# Altium schematic symbol library untitled.SchLib: 6 symbols
Pins are listed as number, name and electrical type; pins without a type are passive.

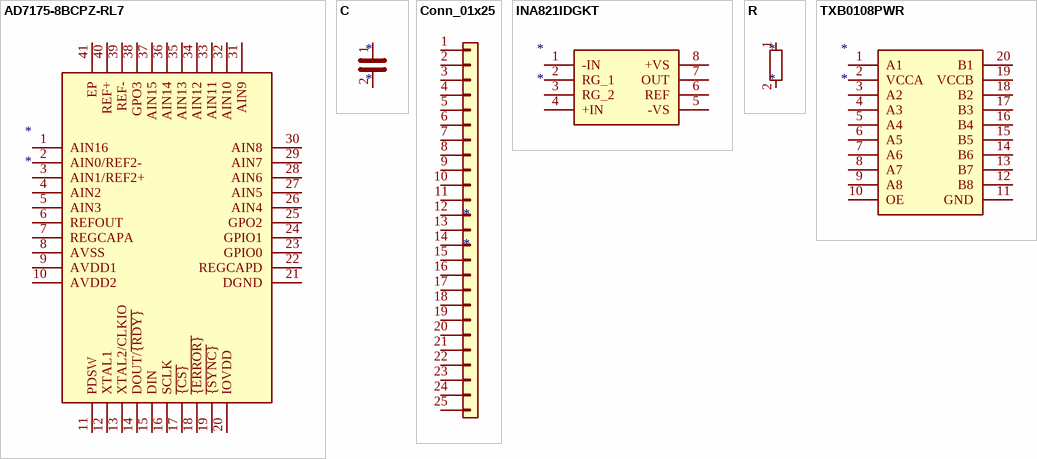
[diagram p0: symbols AD7175-8BCPZ-RL7 to TXB0108PWR]

## AD7175-8BCPZ-RL7
designator *
pins: 1 AIN16, 2 AIN0/REF2-, 3 AIN1/REF2+, 4 AIN2, 5 AIN3, 6 REFOUT, 7 REGCAPA, 8 AVSS, 9 AVDD1, 10 AVDD2, 11 PDSW, 12 XTAL1, 13 XTAL2/CLKIO, 14 DOUT/~{{RDY}}, 15 DIN, 16 SCLK, 17 ~{{CS}}, 18 ~{{ERROR}}, 19 ~{{SYNC}}, 20 IOVDD, 21 DGND, 22 REGCAPD, 23 GPIO0, 24 GPIO1, 25 GPO2, 26 AIN4, 27 AIN5, 28 AIN6, 29 AIN7, 30 AIN8, 31 AIN9, 32 AIN10, 33 AIN11, 34 AIN12, 35 AIN13, 36 AIN14, 37 AIN15, 38 GPO3, 39 REF-, 40 REF+, 41 EP

## C
designator *
pins: 1, 2

## Conn_01x25
designator *
pins: 1 Pin_1, 2 Pin_2, 3 Pin_3, 4 Pin_4, 5 Pin_5, 6 Pin_6, 7 Pin_7, 8 Pin_8, 9 Pin_9, 10 Pin_10, 11 Pin_11, 12 Pin_12, 13 Pin_13, 14 Pin_14, 15 Pin_15, 16 Pin_16, 17 Pin_17, 18 Pin_18, 19 Pin_19, 20 Pin_20, 21 Pin_21, 22 Pin_22, 23 Pin_23, 24 Pin_24, 25 Pin_25

## INA821IDGKT
designator *
pins: 1 -IN, 2 RG_1, 3 RG_2, 4 +IN, 5 -VS, 6 REF, 7 OUT, 8 +VS

## R
designator *
pins: 1, 2

## TXB0108PWR
designator *
pins: 1 A1, 2 VCCA, 3 A2, 4 A3, 5 A4, 6 A5, 7 A6, 8 A7, 9 A8, 10 OE, 11 GND, 12 B8, 13 B7, 14 B6, 15 B5, 16 B4, 17 B3, 18 B2, 19 VCCB, 20 B1